# EAGLE library part TPS259573DSGR (library VFD-Clock)
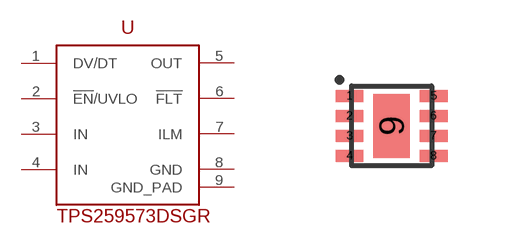
[diagram p2: symbol with the pads of WSON8-2X2; footprint WSON8-2X2]

Designator prefix -

## TPS259573DSGR  [WSON8-2X2]
1  DV/DT
2  !EN!/UVLO
3  IN
4  IN
5  OUT
6  !FLT
7  ILM
8  GND
9  GND_PAD

## Footprint WSON8-2X2 (pad centres in mm)
WSON 2mmx2mm
smd 0.7 x 0.3: 1 -1.05,0.8; 2 -1.05,0.3; 3 -1.05,-0.2; 4 -1.05,-0.7; 5 1.05,0.8; 6 1.05,0.3; 7 1.05,-0.2; 8 1.05,-0.7
smd 0.9 x 1.6: 9 0,0.05